# Altium footprint library Package_SON.PcbLib: 112 footprints (part 4 of 7)
Each footprint in its own frame and in the unit in brackets; x right, y up, seen from the top. Pads: shape width x height; smd on the part's side, far side on the other; paste and mask are expansions set on the pad; w line width, h text height; cw(c..) or ccw(c..) is an arc to the next point about the centre after c.
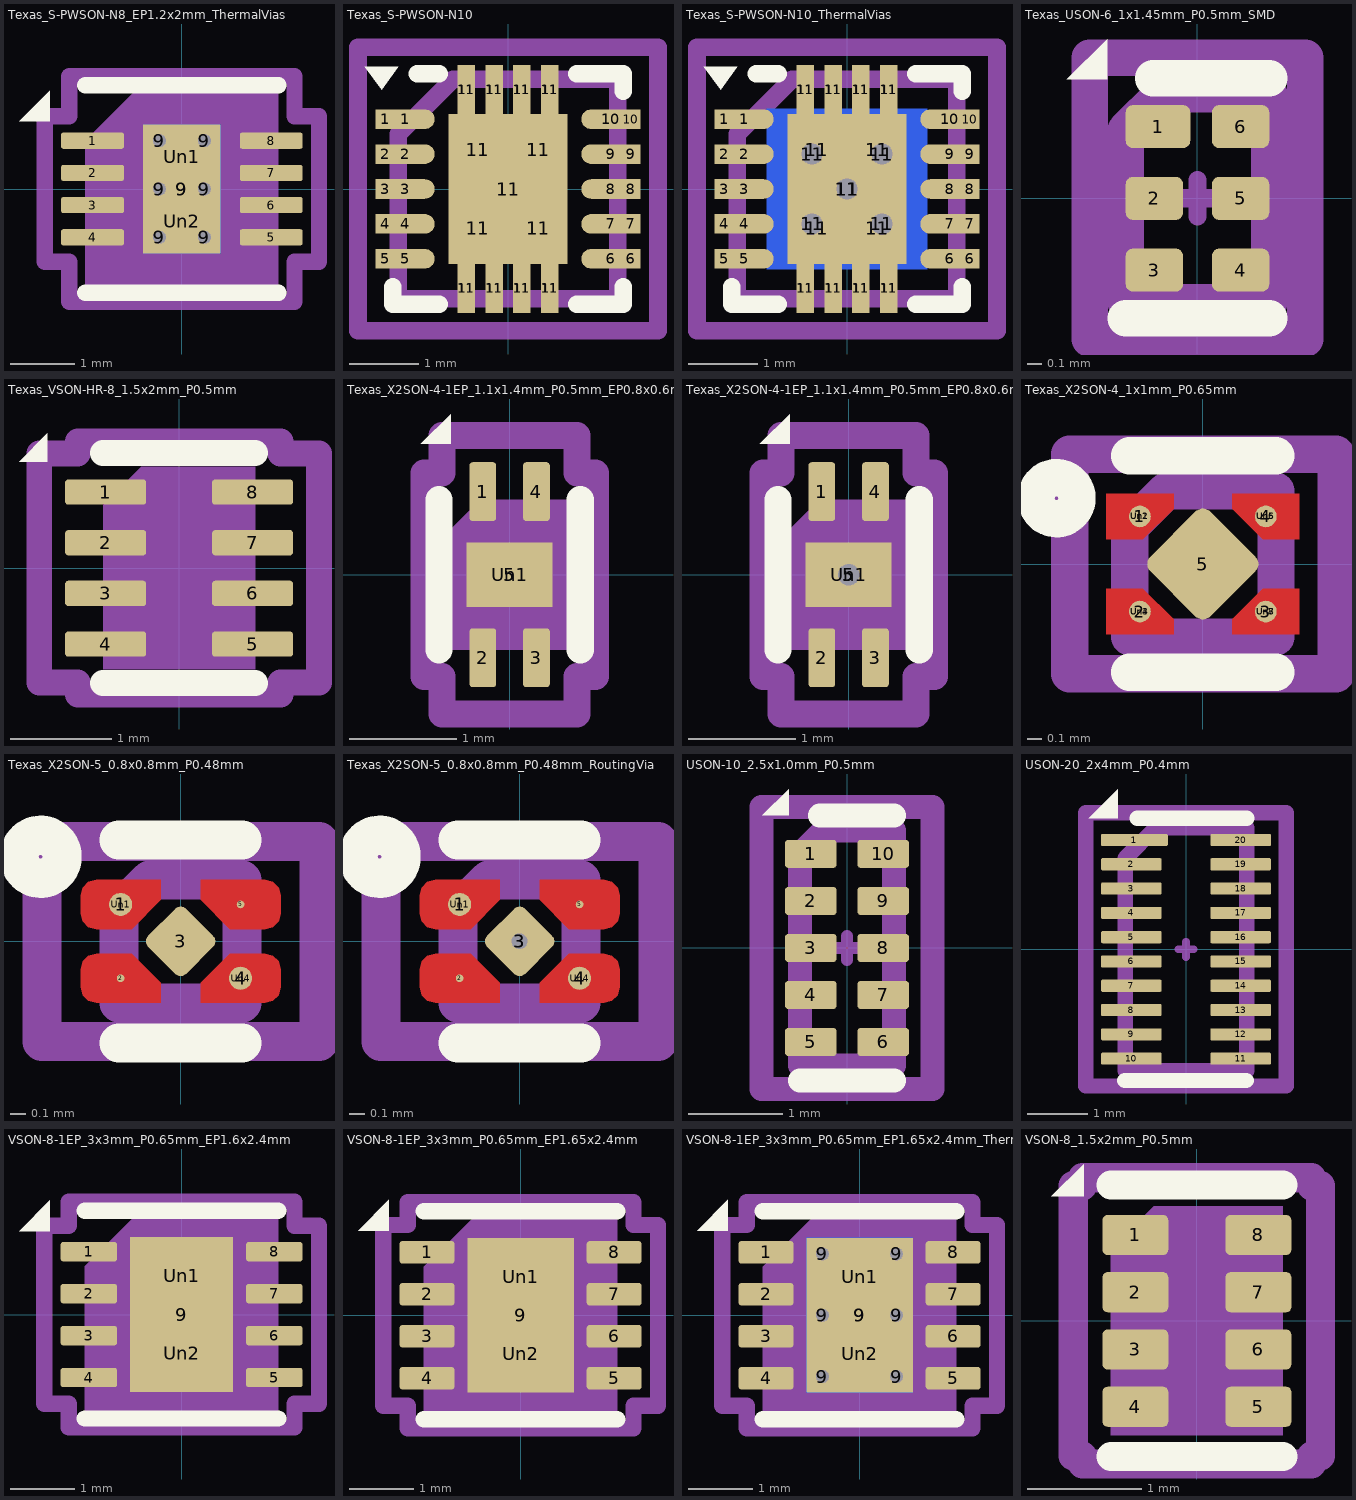
[diagram p3: the footprints below, top view; thin cyan lines are the x and y axes]

## Texas_S-PWSON-N8_EP1.2x2mm_ThermalVias [mm] "Texas_S-PWSON-N8_EP1.2x2mm_ThermalVias"
pads (18):
  rrect25% 0.975x0.25 smd: 1(-1.388,0.75) 2(-1.388,0.25) 3(-1.388,-0.25) 4(-1.388,-0.75) 5(1.388,-0.75) 6(1.388,-0.25) 7(1.388,0.25) 8(1.388,0.75)
  round 0.5 hole 0.2: 9(-0.35,-0.75) 9(-0.35,0) 9(-0.35,0.75) 9(0.35,-0.75) 9(0.35,0) 9(0.35,0.75)
  rect 1.2x2 smd: 9(0,0)
  rect 1.2x2 smd far side: 9(0,0)
  rrect25% 1.04x0.87 on Top Paste: Un1(0,0.5) Un2(0,-0.5)
F.SilkS:
  region: -2.05,1.05 -2.53,1.05 -2.05,1.53
  lines w0.254: -1.5,-1.61 1.5,-1.61 ; -1.5,1.61 1.5,1.61
Top Component Center:
  lines w0.127: -0.127,0 0.127,0 ; 0,-0.127 0,0.127
Top Assembly:
  region: 1.5,-1.5 -1.5,-1.5 -1.5,0.75 -0.75,1.5 1.5,1.5
Top Courtyard:
  lines w0.254: -2.13,-1.13 -2.13,1.13 -1.75,1.13 -1.75,1.75 1.75,1.75 1.75,1.13 2.13,1.13 2.13,-1.13 1.75,-1.13 1.75,-1.75 -1.75,-1.75 -1.75,-1.13 -2.13,-1.13
Top Designator:
  text ".Designator" at -3.434,-0.345 h1.52

## Texas_S-PWSON-N10 [mm] "Texas_S-PWSON-N10"
pads (41):
  rect 0.28x0.28 smd: 1(-1.76,1) 2(-1.76,0.5) 3(-1.76,0) 4(-1.76,-0.5) 5(-1.76,-1) 6(1.76,-1) 7(1.76,-0.5) 8(1.76,0) 9(1.76,0.5) 10(1.76,1)
  rrect100% 0.85x0.28 smd: 1(-1.475,1) 2(-1.475,0.5) 3(-1.475,0) 4(-1.475,-0.5) 5(-1.475,-1) 6(1.475,-1) 7(1.475,-0.5) 8(1.475,0) 9(1.475,0.5) 10(1.475,1)
  rect 0.25x0.7 smd: 11(-0.6,-1.425) 11(-0.6,1.425) 11(-0.2,-1.425) 11(-0.2,1.425) 11(0.2,-1.425) 11(0.2,1.425) 11(0.6,-1.425) 11(0.6,1.425)
  rect 0.23x0.6 smd: 11(-0.6,-1.425) 11(-0.6,1.425) 11(-0.2,-1.425) 11(-0.2,1.425) 11(0.2,-1.425) 11(0.2,1.425) 11(0.6,-1.425) 11(0.6,1.425)
  rect 0.65x0.9 smd: 11(-0.435,-0.56) 11(-0.435,0.56) 11(0.435,-0.56) 11(0.435,0.56)
  rect 1.7x2.15 smd: 11(0,0)
F.SilkS:
  region: -1.81,1.42 -2.05,1.75 -1.57,1.75
  lines w0.254: -1.65,-1.4 -1.65,-1.65 -0.985,-1.65 ; -1.3,1.65 -0.985,1.65 ; 0.985,-1.65 1.65,-1.65 1.65,-1.4 ; 0.985,1.65 1.65,1.65 1.65,1.4
Top Component Center:
  lines w0.127: -0.127,0 0.127,0 ; 0,-0.127 0,0.127
Top Assembly:
  lines w0.254: -1.575,-1.575 1.575,-1.575 1.575,1.575 -0.787,1.575 -1.575,0.787 -1.575,-1.575
Top Courtyard:
  lines w0.254: -2.15,-2.03 2.15,-2.03 2.15,2.03 -2.15,2.03 -2.15,-2.03
Top Designator:
  text ".Designator" at -3.434,-0.345 h1.52

## Texas_S-PWSON-N10_ThermalVias [mm] "Texas_S-PWSON-N10_ThermalVias"
pads (47):
  rect 0.28x0.28 smd: 1(-1.76,1) 2(-1.76,0.5) 3(-1.76,0) 4(-1.76,-0.5) 5(-1.76,-1) 6(1.76,-1) 7(1.76,-0.5) 8(1.76,0) 9(1.76,0.5) 10(1.76,1)
  rrect100% 0.85x0.28 smd: 1(-1.475,1) 2(-1.475,0.5) 3(-1.475,0) 4(-1.475,-0.5) 5(-1.475,-1) 6(1.475,-1) 7(1.475,-0.5) 8(1.475,0) 9(1.475,0.5) 10(1.475,1)
  rect 0.23x0.6 smd: 11(-0.6,-1.425) 11(-0.6,1.425) 11(-0.2,-1.425) 11(-0.2,1.425) 11(0.2,-1.425) 11(0.2,1.425) 11(0.6,-1.425) 11(0.6,1.425)
  rect 0.25x0.7 smd: 11(-0.6,-1.425) 11(-0.6,1.425) 11(-0.2,-1.425) 11(-0.2,1.425) 11(0.2,-1.425) 11(0.2,1.425) 11(0.6,-1.425) 11(0.6,1.425)
  round 0.6 hole 0.3: 11(-0.5,-0.5) 11(-0.5,0.5) 11(0,0) 11(0.5,-0.5) 11(0.5,0.5)
  rect 0.65x0.9 smd: 11(-0.435,-0.56) 11(-0.435,0.56) 11(0.435,-0.56) 11(0.435,0.56)
  rect 2.3x2.3 smd far side: 11(-0.001,0)
  rect 1.7x2.15 smd: 11(0,0)
F.SilkS:
  region: -1.81,1.42 -2.05,1.75 -1.57,1.75
  lines w0.254: -1.65,-1.4 -1.65,-1.65 -0.985,-1.65 ; -1.3,1.65 -0.985,1.65 ; 0.985,-1.65 1.65,-1.65 1.65,-1.4 ; 0.985,1.65 1.65,1.65 1.65,1.4
Top Component Center:
  lines w0.127: -0.127,0 0.127,0 ; 0,-0.127 0,0.127
Top Assembly:
  lines w0.254: -1.575,-1.575 -1.575,0.787 -0.787,1.575 1.575,1.575 1.575,-1.575 -1.575,-1.575
Top Courtyard:
  lines w0.254: -2.15,-2.03 -2.15,2.03 2.15,2.03 2.15,-2.03 -2.15,-2.03
Top Designator:
  text ".Designator" at -3.434,-0.345 h1.52

## Texas_USON-6_1x1.45mm_P0.5mm_SMD [mm] "Texas_USON-6_1x1.45mm_P0.5mm_SMD"
pads (6):
  rrect33% 0.45x0.3 smd: 1(-0.275,0.5)
  rrect33% 0.4x0.3 smd: 2(-0.3,0) 3(-0.3,-0.5) 4(0.3,-0.5) 5(0.3,0) 6(0.3,0.5)
F.SilkS:
  region: -0.63,0.83 -0.91,0.83 -0.63,1.11
  lines w0.254: -0.5,-0.835 0.5,-0.835 ; -0.31,0.835 0.5,0.835
Top Component Center:
  lines w0.127: -0.127,0 0.127,0 ; 0,-0.127 0,0.127
Top Assembly:
  lines w0.254: -0.5,-0.725 0.5,-0.725 0.5,0.725 -0.25,0.725 -0.5,0.475 -0.5,-0.725
Top Courtyard:
  lines w0.254: -0.75,-0.98 0.75,-0.98 0.75,0.98 -0.75,0.98 -0.75,-0.98
Top Designator:
  text ".Designator" at -1.689,-0.17 h0.75

## Texas_VSON-HR-8_1.5x2mm_P0.5mm [mm]
pads (8):
  rrect25% 0.8x0.25 smd: 1(-0.725,0.75) 2(-0.725,0.25) 3(-0.725,-0.25) 4(-0.725,-0.75) 5(0.725,-0.75) 6(0.725,-0.25) 7(0.725,0.25) 8(0.725,0.75)
F.SilkS:
  region: -1.3,1.05 -1.58,1.05 -1.3,1.33
  lines w0.254: -0.75,-1.135 0.75,-1.135 ; -0.75,1.135 0.75,1.135
Top Component Center:
  lines w0.127: -0.127,0 0.127,0 ; 0,-0.127 0,0.127
Top Assembly:
  region: 0.75,-1 -0.75,-1 -0.75,0.625 -0.375,1 0.75,1
Top Courtyard:
  lines w0.254: -1.38,-1.13 -1.38,1.13 -1,1.13 -1,1.25 1,1.25 1,1.13 1.38,1.13 1.38,-1.13 1,-1.13 1,-1.25 -1,-1.25 -1,-1.13 -1.38,-1.13
Top Designator:
  text ".Designator" at -2.252,-0.226 h1
3D body "Texas_VSON-HR-8_1.5x2mm_P0.5mm.step": height 1, standoff 0, extent -0.75,-0.988 0.75,0.988

## Texas_X2SON-4-1EP_1.1x1.4mm_P0.5mm_EP0.8x0.6mm [mm] "Texas_X2SON-4-1EP_1.1x1.4mm_P0.5mm_EP0.8x0.6mm"
pads (6):
  rrect25% 0.25x0.55 smd: 1(-0.25,0.775) 2(-0.25,-0.775) 3(0.25,-0.775) 4(0.25,0.775)
  rect 0.8x0.6 smd: 5(0,0)
  rrect25% 0.64x0.48 on Top Paste: Un1(0,0)
F.SilkS:
  region: -0.55,1.22 -0.83,1.22 -0.55,1.5
  lines w0.254: -0.66,-0.7 -0.66,0.7 ; 0.66,-0.7 0.66,0.7
Top Component Center:
  lines w0.127: -0.127,0 0.127,0 ; 0,-0.127 0,0.127
Top Assembly:
  region: 0.55,-0.7 -0.55,-0.7 -0.55,0.425 -0.275,0.7 0.55,0.7
  text "'.Designator'" at 0.292,-1.414 h0.35
Top Courtyard:
  lines w0.254: -0.8,-0.95 -0.8,0.95 -0.63,0.95 -0.63,1.3 0.63,1.3 0.63,0.95 0.8,0.95 0.8,-0.95 0.63,-0.95 0.63,-1.3 -0.63,-1.3 -0.63,-0.95 -0.8,-0.95
Top Designator:
  text ".Designator" at -1.689,-0.151 h0.75

## Texas_X2SON-4-1EP_1.1x1.4mm_P0.5mm_EP0.8x0.6mm_ThermalVias [mm] "Texas_X2SON-4-1EP_1.1x1.4mm_P0.5mm_EP0.8x0.6mm_ThermalVias"
pads (8):
  rrect25% 0.25x0.55 smd: 1(-0.25,0.775) 2(-0.25,-0.775) 3(0.25,-0.775) 4(0.25,0.775)
  rect 0.8x0.6 smd: 5(0,0)
  round 0.5 hole 0.2: 5(0,0)
  rect 0.5x0.5 smd far side: 5(0,0)
  rrect25% 0.69x0.52 on Top Paste: Un1(0,0)
F.SilkS:
  region: -0.55,1.22 -0.83,1.22 -0.55,1.5
  lines w0.254: -0.66,-0.7 -0.66,0.7 ; 0.66,-0.7 0.66,0.7
Top Component Center:
  lines w0.127: -0.127,0 0.127,0 ; 0,-0.127 0,0.127
Top Assembly:
  region: 0.55,-0.7 -0.55,-0.7 -0.55,0.425 -0.275,0.7 0.55,0.7
Top Courtyard:
  lines w0.254: -0.8,-0.95 -0.63,-0.95 -0.63,-1.3 0.63,-1.3 0.63,-0.95 0.8,-0.95 0.8,0.95 0.63,0.95 0.63,1.3 -0.63,1.3 -0.63,0.95 -0.8,0.95 -0.8,-0.95
Top Designator:
  text ".Designator" at -1.689,-0.151 h0.75

## Texas_X2SON-4_1x1mm_P0.65mm [mm] "Texas_X2SON-4_1x1mm_P0.65mm"
pads (13):
  round 0.148 smd: 1(-0.43,0.325) 2(-0.43,-0.325) 3(0.43,-0.325) 4(0.43,0.325)
  rrect25% 0.58x0.58 smd rot 45: 5(0,0)
  round 0.148 on Top Solder: Un1(-0.43,0.325) Un3(-0.43,-0.325) Un5(0.43,0.325) Un7(0.43,-0.325)
  round 0.148 on Top Paste: Un2(-0.43,0.325) Un4(-0.43,-0.325) Un6(0.43,0.325) Un8(0.43,-0.325)
F.Cu:
  region: 0.66,0.17 0.409,0.17 0.2,0.379 0.2,0.48 0.66,0.48
  region: 0.66,-0.48 0.2,-0.48 0.2,-0.379 0.409,-0.17 0.66,-0.17
  region: -0.2,-0.379 -0.2,-0.48 -0.66,-0.48 -0.66,-0.17 -0.409,-0.17
  region: -0.2,0.379 -0.409,0.17 -0.66,0.17 -0.66,0.48 -0.2,0.48
F.SilkS:
  circle w0.254: c-1,0.45 r0.14
  lines w0.254: -0.5,-0.74 0.5,-0.74 ; -0.5,0.74 0.5,0.74
F.Paste:
  region: 0.65,-0.43 0.25,-0.43 0.25,-0.4 0.43,-0.22 0.65,-0.22
  region: 0.65,0.22 0.43,0.22 0.25,0.4 0.25,0.43 0.65,0.43
  region: -0.25,-0.4 -0.25,-0.43 -0.65,-0.43 -0.65,-0.22 -0.43,-0.22
  region: -0.25,0.4 -0.43,0.22 -0.65,0.22 -0.65,0.43 -0.25,0.43
F.Mask:
  region: 0.61,-0.43 0.25,-0.43 0.25,-0.4 0.43,-0.22 0.61,-0.22
  region: 0.61,0.22 0.43,0.22 0.25,0.4 0.25,0.43 0.61,0.43
  region: -0.25,-0.4 -0.25,-0.43 -0.61,-0.43 -0.61,-0.22 -0.43,-0.22
  region: -0.25,0.4 -0.43,0.22 -0.61,0.22 -0.61,0.43 -0.25,0.43
Top Component Center:
  lines w0.127: -0.127,0 0.127,0 ; 0,-0.127 0,0.127
Top Assembly:
  lines w0.254: -0.5,-0.5 0.5,-0.5 0.5,0.5 -0.25,0.5 -0.5,0.25 -0.5,-0.5
Top Courtyard:
  lines w0.254: -0.91,-0.75 0.91,-0.75 0.91,0.75 -0.91,0.75 -0.91,-0.75
Top Designator:
  text ".Designator" at -1.689,-0.17 h0.75

## Texas_X2SON-5_0.8x0.8mm_P0.48mm [mm] "Texas_X2SON-5_0.8x0.8mm_P0.48mm"
pads (9):
  round 0.15 smd: 1(-0.39,0.24) 4(0.39,-0.24)
  round 0.05 smd: 2(-0.39,-0.24) 5(0.39,0.24)
  rrect29% 0.35x0.35 smd rot 45: 3(0,0)
  round 0.15 on Top Solder: Un1(-0.39,0.24)
  round 0.05 on Top Solder: Un2(-0.39,-0.24) Un3(0.39,0.24)
  round 0.15 on Top Paste: Un4(0.39,-0.24)
F.Cu:
  region: 0.6,0.387 0.637,0.35 0.65,0.3 0.65,0.18 0.637,0.13 0.6,0.093 0.55,0.08 0.319,0.08 0.13,0.269 0.13,0.4 0.55,0.4
  region: 0.6,-0.093 0.637,-0.13 0.65,-0.18 0.65,-0.3 0.637,-0.35 0.6,-0.387 0.55,-0.4 0.13,-0.4 0.13,-0.269 0.319,-0.08 0.55,-0.08
  region: -0.13,-0.269 -0.13,-0.4 -0.55,-0.4 -0.6,-0.387 -0.637,-0.35 -0.65,-0.3 -0.65,-0.18 -0.637,-0.13 -0.6,-0.093 -0.55,-0.08 -0.319,-0.08
  region: -0.13,0.269 -0.319,0.08 -0.55,0.08 -0.6,0.093 -0.637,0.13 -0.65,0.18 -0.65,0.3 -0.637,0.35 -0.6,0.387 -0.55,0.4 -0.13,0.4
F.SilkS:
  circle w0.254: c-0.91,0.55 r0.14
  lines w0.254: -0.4,-0.66 0.4,-0.66 ; -0.4,0.66 0.4,0.66
F.Paste:
  region: 0.585,-0.145 0.6,-0.18 0.6,-0.3 0.585,-0.335 0.55,-0.35 0.18,-0.35 0.18,-0.29 0.34,-0.13 0.55,-0.13
  region: 0.585,0.335 0.6,0.3 0.6,0.18 0.585,0.145 0.55,0.13 0.34,0.13 0.18,0.29 0.18,0.35 0.55,0.35
  region: -0.18,-0.29 -0.18,-0.35 -0.55,-0.35 -0.585,-0.335 -0.6,-0.3 -0.6,-0.18 -0.585,-0.145 -0.55,-0.13 -0.34,-0.13
  region: -0.18,0.29 -0.34,0.13 -0.55,0.13 -0.585,0.145 -0.6,0.18 -0.6,0.3 -0.585,0.335 -0.55,0.35 -0.18,0.35
F.Mask:
  region: 0.6,0.387 0.637,0.35 0.65,0.3 0.65,0.18 0.637,0.13 0.6,0.093 0.55,0.08 0.319,0.08 0.13,0.269 0.13,0.4 0.55,0.4
  region: 0.6,-0.093 0.637,-0.13 0.65,-0.18 0.65,-0.3 0.637,-0.35 0.6,-0.387 0.55,-0.4 0.13,-0.4 0.13,-0.269 0.319,-0.08 0.55,-0.08
  region: -0.13,-0.269 -0.13,-0.4 -0.55,-0.4 -0.6,-0.387 -0.637,-0.35 -0.65,-0.3 -0.65,-0.18 -0.637,-0.13 -0.6,-0.093 -0.55,-0.08 -0.319,-0.08
  region: -0.13,0.269 -0.319,0.08 -0.55,0.08 -0.6,0.093 -0.637,0.13 -0.65,0.18 -0.65,0.3 -0.637,0.35 -0.6,0.387 -0.55,0.4 -0.13,0.4
  region: 0.585,0.335 0.6,0.3 0.6,0.18 0.585,0.145 0.55,0.13 0.34,0.13 0.18,0.29 0.18,0.35 0.55,0.35
  region: -0.18,-0.29 -0.18,-0.35 -0.55,-0.35 -0.585,-0.335 -0.6,-0.3 -0.6,-0.18 -0.585,-0.145 -0.55,-0.13 -0.34,-0.13
  region: -0.18,0.29 -0.34,0.13 -0.55,0.13 -0.585,0.145 -0.6,0.18 -0.6,0.3 -0.585,0.335 -0.55,0.35 -0.18,0.35
Top Component Center:
  lines w0.127: -0.127,0 0.127,0 ; 0,-0.127 0,0.127
Top Assembly:
  lines w0.254: -0.4,-0.4 0.4,-0.4 0.4,0.4 -0.2,0.4 -0.4,0.2 -0.4,-0.4
Top Courtyard:
  lines w0.254: -0.9,-0.65 0.9,-0.65 0.9,0.65 -0.9,0.65 -0.9,-0.65
Top Designator:
  text ".Designator" at -1.689,-0.17 h0.75

## Texas_X2SON-5_0.8x0.8mm_P0.48mm_RoutingVia [mm] "Texas_X2SON-5_0.8x0.8mm_P0.48mm_RoutingVia"
pads (10):
  round 0.15 smd: 1(-0.39,0.24) 4(0.39,-0.24)
  round 0.05 smd: 2(-0.39,-0.24) 5(0.39,0.24)
  rrect29% 0.35x0.35 smd rot 45: 3(0,0)
  round 0.305 hole 0.102: 3(0,0)
  round 0.15 on Top Solder: Un1(-0.39,0.24)
  round 0.05 on Top Solder: Un2(-0.39,-0.24) Un3(0.39,0.24)
  round 0.15 on Top Paste: Un4(0.39,-0.24)
F.Cu:
  region: 0.6,0.387 0.637,0.35 0.65,0.3 0.65,0.18 0.637,0.13 0.6,0.093 0.55,0.08 0.319,0.08 0.13,0.269 0.13,0.4 0.55,0.4
  region: 0.6,-0.093 0.637,-0.13 0.65,-0.18 0.65,-0.3 0.637,-0.35 0.6,-0.387 0.55,-0.4 0.13,-0.4 0.13,-0.269 0.319,-0.08 0.55,-0.08
  region: -0.13,-0.269 -0.13,-0.4 -0.55,-0.4 -0.6,-0.387 -0.637,-0.35 -0.65,-0.3 -0.65,-0.18 -0.637,-0.13 -0.6,-0.093 -0.55,-0.08 -0.319,-0.08
  region: -0.13,0.269 -0.319,0.08 -0.55,0.08 -0.6,0.093 -0.637,0.13 -0.65,0.18 -0.65,0.3 -0.637,0.35 -0.6,0.387 -0.55,0.4 -0.13,0.4
F.SilkS:
  circle w0.254: c-0.91,0.55 r0.14
  lines w0.254: -0.4,-0.66 0.4,-0.66 ; -0.4,0.66 0.4,0.66
F.Paste:
  region: 0.585,-0.145 0.6,-0.18 0.6,-0.3 0.585,-0.335 0.55,-0.35 0.18,-0.35 0.18,-0.29 0.34,-0.13 0.55,-0.13
  region: 0.585,0.335 0.6,0.3 0.6,0.18 0.585,0.145 0.55,0.13 0.34,0.13 0.18,0.29 0.18,0.35 0.55,0.35
  region: -0.18,-0.29 -0.18,-0.35 -0.55,-0.35 -0.585,-0.335 -0.6,-0.3 -0.6,-0.18 -0.585,-0.145 -0.55,-0.13 -0.34,-0.13
  region: -0.18,0.29 -0.34,0.13 -0.55,0.13 -0.585,0.145 -0.6,0.18 -0.6,0.3 -0.585,0.335 -0.55,0.35 -0.18,0.35
F.Mask:
  region: 0.6,0.387 0.637,0.35 0.65,0.3 0.65,0.18 0.637,0.13 0.6,0.093 0.55,0.08 0.319,0.08 0.13,0.269 0.13,0.4 0.55,0.4
  region: 0.6,-0.093 0.637,-0.13 0.65,-0.18 0.65,-0.3 0.637,-0.35 0.6,-0.387 0.55,-0.4 0.13,-0.4 0.13,-0.269 0.319,-0.08 0.55,-0.08
  region: -0.13,-0.269 -0.13,-0.4 -0.55,-0.4 -0.6,-0.387 -0.637,-0.35 -0.65,-0.3 -0.65,-0.18 -0.637,-0.13 -0.6,-0.093 -0.55,-0.08 -0.319,-0.08
  region: -0.13,0.269 -0.319,0.08 -0.55,0.08 -0.6,0.093 -0.637,0.13 -0.65,0.18 -0.65,0.3 -0.637,0.35 -0.6,0.387 -0.55,0.4 -0.13,0.4
  region: 0.585,0.335 0.6,0.3 0.6,0.18 0.585,0.145 0.55,0.13 0.34,0.13 0.18,0.29 0.18,0.35 0.55,0.35
  region: -0.18,-0.29 -0.18,-0.35 -0.55,-0.35 -0.585,-0.335 -0.6,-0.3 -0.6,-0.18 -0.585,-0.145 -0.55,-0.13 -0.34,-0.13
  region: -0.18,0.29 -0.34,0.13 -0.55,0.13 -0.585,0.145 -0.6,0.18 -0.6,0.3 -0.585,0.335 -0.55,0.35 -0.18,0.35
Top Component Center:
  lines w0.127: -0.127,0 0.127,0 ; 0,-0.127 0,0.127
Top Assembly:
  lines w0.254: -0.4,-0.4 0.4,-0.4 0.4,0.4 -0.2,0.4 -0.4,0.2 -0.4,-0.4
Top Courtyard:
  lines w0.254: -0.9,-0.65 0.9,-0.65 0.9,0.65 -0.9,0.65 -0.9,-0.65
Top Designator:
  text ".Designator" at -1.689,-0.17 h0.75

## USON-10_2.5x1.0mm_P0.5mm [mm] "USON-10_2.5x1.0mm_P0.5mm"
pads (10):
  rrect25% 0.55x0.3 smd: 1(-0.385,1) 2(-0.385,0.5) 3(-0.385,0) 4(-0.385,-0.5) 5(-0.385,-1) 6(0.385,-1) 7(0.385,-0.5) 8(0.385,0) 9(0.385,0.5) 10(0.385,1)
F.SilkS:
  region: -0.62,1.41 -0.9,1.41 -0.62,1.69
  lines w0.254: -0.5,-1.41 0.5,-1.41 ; -0.29,1.41 0.5,1.41
Top Component Center:
  lines w0.127: -0.127,0 0.127,0 ; 0,-0.127 0,0.127
Top Assembly:
  lines w0.254: -0.5,-1.25 0.5,-1.25 0.5,1.25 -0.25,1.25 -0.5,1 -0.5,-1.25
Top Courtyard:
  lines w0.254: -0.91,-1.5 0.91,-1.5 0.91,1.5 -0.91,1.5 -0.91,-1.5
Top Designator:
  text ".Designator" at -1.689,-0.17 h0.75
3D body "USON-10_2.5x1.0mm_P0.5mm.step": height 0.52, standoff 0, extent -0.5,-1.24 0.5,1.24

## USON-20_2x4mm_P0.4mm [mm] "USON-20_2x4mm_P0.4mm"
pads (20):
  rrect25% 1.1x0.2 smd: 1(-0.85,1.8)
  rrect25% 1x0.2 smd: 2(-0.9,1.4) 3(-0.9,1) 4(-0.9,0.6) 5(-0.9,0.2) 6(-0.9,-0.2) 7(-0.9,-0.6) 8(-0.9,-1) 9(-0.9,-1.4) 10(-0.9,-1.8) 11(0.9,-1.8) 12(0.9,-1.4) 13(0.9,-1) 14(0.9,-0.6) 15(0.9,-0.2) 16(0.9,0.2) 17(0.9,0.6) 18(0.9,1) 19(0.9,1.4) 20(0.9,1.8)
F.SilkS:
  region: -1.12,2.16 -1.6,2.16 -1.12,2.64
  lines w0.254: -1.01,-2.16 0.99,-2.16 ; -0.8,2.16 1,2.16
Top Component Center:
  lines w0.127: -0.127,0 0.127,0 ; 0,-0.127 0,0.127
Top Assembly:
  lines w0.254: -1,-2 1,-2 1,2 -0.5,2 -1,1.5 -1,-2
Top Courtyard:
  lines w0.254: -1.65,-2.25 1.65,-2.25 1.65,2.25 -1.65,2.25 -1.65,-2.25
Top Designator:
  text ".Designator" at -2.252,-0.226 h1
3D body "USON-20_2x4mm_P0.4mm.step": height 0.52, standoff 0, extent -1,-1.99 1,1.99

## VSON-8-1EP_3x3mm_P0.65mm_EP1.6x2.4mm [mm] "VSON-8-1EP_3x3mm_P0.65mm_EP1.6x2.4mm"
pads (11):
  rrect25% 0.875x0.3 smd: 1(-1.438,0.975) 2(-1.438,0.325) 3(-1.438,-0.325) 4(-1.438,-0.975) 5(1.438,-0.975) 6(1.438,-0.325) 7(1.438,0.325) 8(1.438,0.975)
  rect 1.6x2.4 smd: 9(0,0)
  rrect25% 1.29x0.97 on Top Paste: Un1(0,0.6) Un2(0,-0.6)
F.SilkS:
  region: -2.04,1.29 -2.52,1.29 -2.04,1.77
  lines w0.254: -1.5,-1.61 1.5,-1.61 ; -1.5,1.61 1.5,1.61
Top Component Center:
  lines w0.127: -0.127,0 0.127,0 ; 0,-0.127 0,0.127
Top Assembly:
  region: 1.5,-1.5 -1.5,-1.5 -1.5,0.75 -0.75,1.5 1.5,1.5
Top Courtyard:
  lines w0.254: -2.13,-1.38 -1.75,-1.38 -1.75,-1.75 1.75,-1.75 1.75,-1.38 2.13,-1.38 2.13,1.38 1.75,1.38 1.75,1.75 -1.75,1.75 -1.75,1.38 -2.13,1.38 -2.13,-1.38
Top Designator:
  text ".Designator" at -3.434,-0.345 h1.52

## VSON-8-1EP_3x3mm_P0.65mm_EP1.65x2.4mm [mm] "VSON-8-1EP_3x3mm_P0.65mm_EP1.65x2.4mm"
pads (11):
  rrect25% 0.85x0.35 smd: 1(-1.45,0.975) 2(-1.45,0.325) 3(-1.45,-0.325) 4(-1.45,-0.975) 5(1.45,-0.975) 6(1.45,-0.325) 7(1.45,0.325) 8(1.45,0.975)
  rect 1.65x2.4 smd: 9(0,0)
  rrect25% 1.33x0.97 on Top Paste: Un1(0,0.6) Un2(0,-0.6)
F.SilkS:
  region: -2.04,1.31 -2.52,1.31 -2.04,1.79
  lines w0.254: -1.5,-1.61 1.5,-1.61 ; -1.5,1.61 1.5,1.61
Top Component Center:
  lines w0.127: -0.127,0 0.127,0 ; 0,-0.127 0,0.127
Top Assembly:
  region: 1.5,-1.5 -1.5,-1.5 -1.5,0.75 -0.75,1.5 1.5,1.5
Top Courtyard:
  lines w0.254: -2.13,-1.4 -1.75,-1.4 -1.75,-1.75 1.75,-1.75 1.75,-1.4 2.13,-1.4 2.13,1.4 1.75,1.4 1.75,1.75 -1.75,1.75 -1.75,1.4 -2.13,1.4 -2.13,-1.4
Top Designator:
  text ".Designator" at -3.434,-0.345 h1.52

## VSON-8-1EP_3x3mm_P0.65mm_EP1.65x2.4mm_ThermalVias [mm] "VSON-8-1EP_3x3mm_P0.65mm_EP1.65x2.4mm_ThermalVias"
pads (18):
  rrect25% 0.85x0.35 smd: 1(-1.45,0.975) 2(-1.45,0.325) 3(-1.45,-0.325) 4(-1.45,-0.975) 5(1.45,-0.975) 6(1.45,-0.325) 7(1.45,0.325) 8(1.45,0.975)
  round 0.5 hole 0.2: 9(-0.575,-0.95) 9(-0.575,0) 9(-0.575,0.95) 9(0.575,-0.95) 9(0.575,0) 9(0.575,0.95)
  rect 1.65x2.4 smd: 9(0,0)
  rect 1.65x2.4 smd far side: 9(0,0)
  rrect25% 1.33x0.97 on Top Paste: Un1(0,0.6) Un2(0,-0.6)
F.SilkS:
  region: -2.04,1.31 -2.52,1.31 -2.04,1.79
  lines w0.254: -1.5,-1.61 1.5,-1.61 ; -1.5,1.61 1.5,1.61
Top Component Center:
  lines w0.127: -0.127,0 0.127,0 ; 0,-0.127 0,0.127
Top Assembly:
  region: 1.5,-1.5 -1.5,-1.5 -1.5,0.75 -0.75,1.5 1.5,1.5
Top Courtyard:
  lines w0.254: -2.13,-1.4 -1.75,-1.4 -1.75,-1.75 1.75,-1.75 1.75,-1.4 2.13,-1.4 2.13,1.4 1.75,1.4 1.75,1.75 -1.75,1.75 -1.75,1.4 -2.13,1.4 -2.13,-1.4
Top Designator:
  text ".Designator" at -3.434,-0.345 h1.52

## VSON-8_1.5x2mm_P0.5mm [mm] "VSON-8_1.5x2mm_P0.5mm"
pads (8):
  rrect25% 0.575x0.35 smd: 1(-0.537,0.75) 2(-0.537,0.25) 3(-0.537,-0.25) 4(-0.537,-0.75) 5(0.537,-0.75) 6(0.537,-0.25) 7(0.537,0.25) 8(0.537,0.75)
F.SilkS:
  region: -0.99,1.09 -1.27,1.09 -0.99,1.37
  lines w0.254: -0.75,-1.185 0.75,-1.185 ; -0.75,1.185 0.75,1.185
Top Component Center:
  lines w0.127: -0.127,0 0.127,0 ; 0,-0.127 0,0.127
Top Assembly:
  region: 0.75,-1 -0.75,-1 -0.75,0.625 -0.375,1 0.75,1
Top Courtyard:
  lines w0.254: -1.08,-1.18 -1,-1.18 -1,-1.25 1,-1.25 1,-1.18 1.08,-1.18 1.08,1.18 1,1.18 1,1.25 -1,1.25 -1,1.18 -1.08,1.18 -1.08,-1.18
Top Designator:
  text ".Designator" at -1.689,-0.17 h0.75